# Altium footprint library AMP Footprints.PcbLib: 903 footprints (part 41 of 58)
Each footprint in its own frame and in the unit in brackets; x right, y up, seen from the top. Pads: shape width x height; smd on the part's side, far side on the other; paste and mask are expansions set on the pad; w line width, h text height; cw(c..) or ccw(c..) is an arc to the next point about the centre after c.
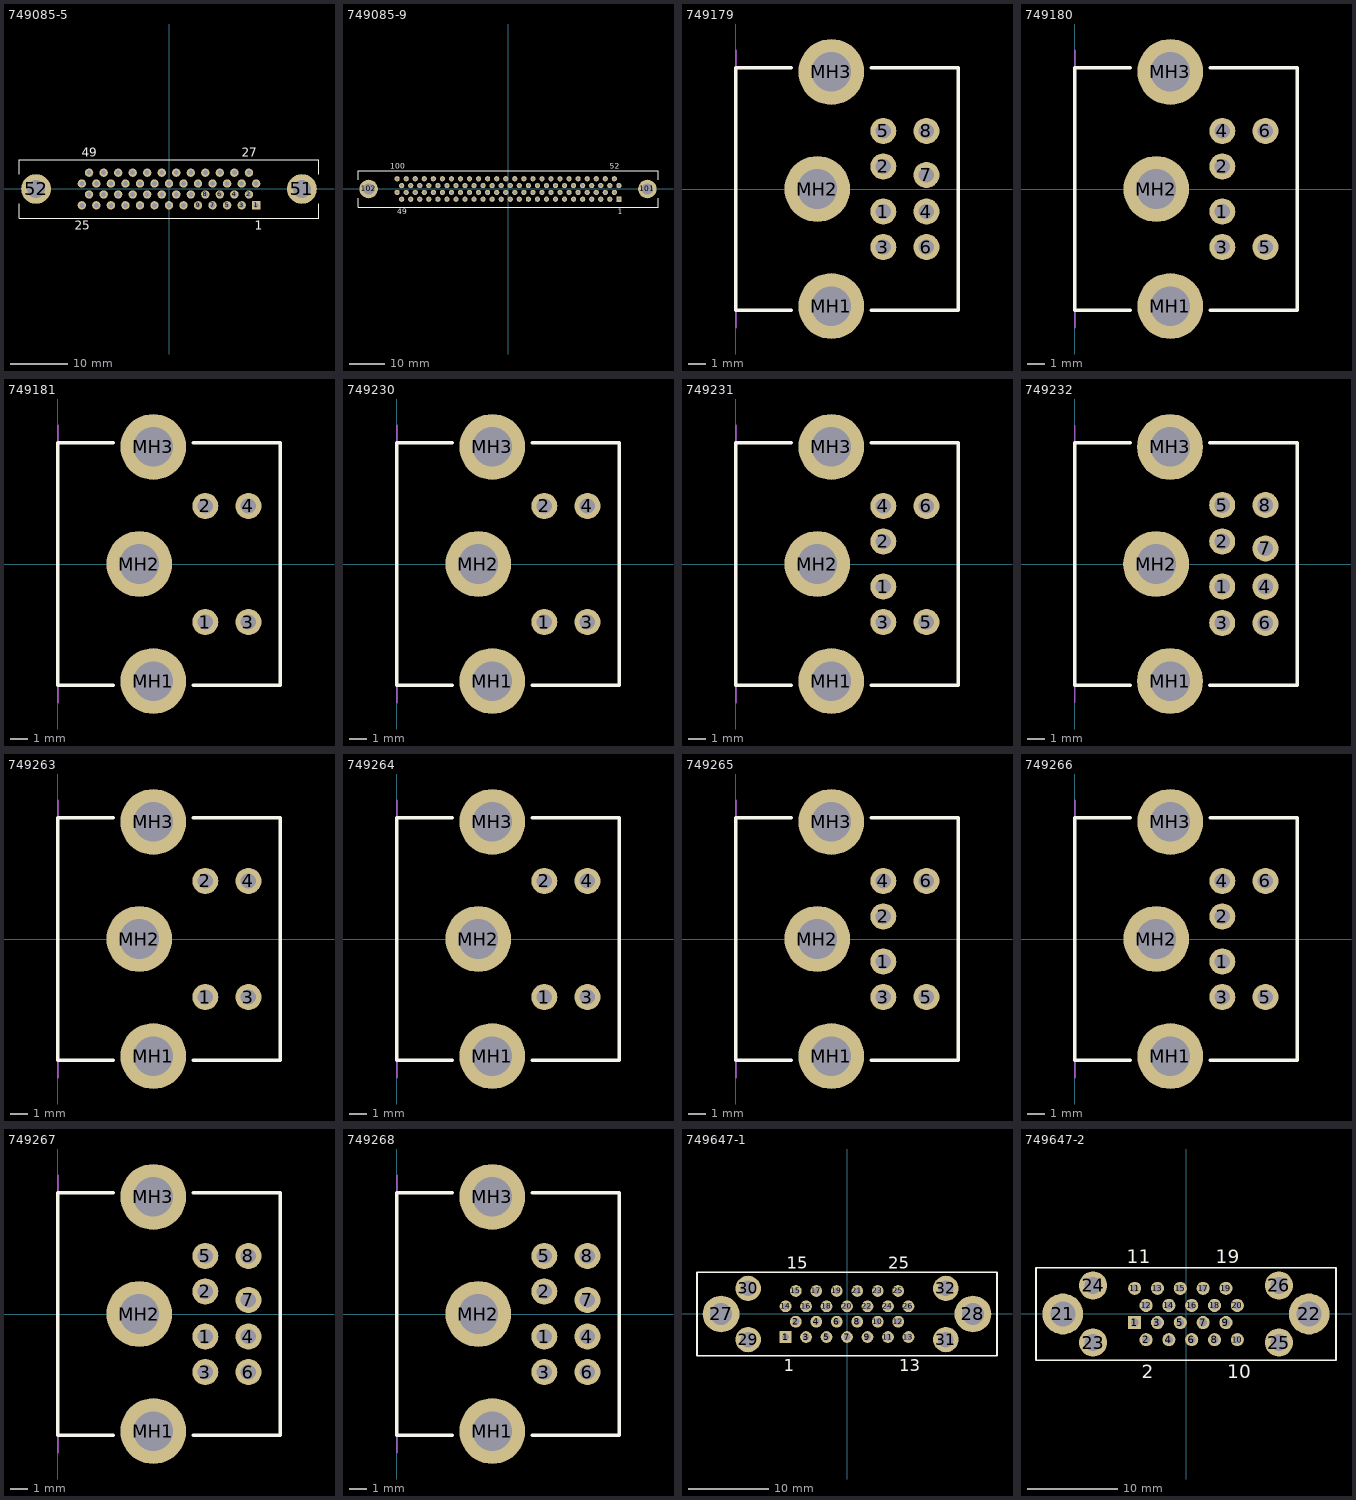
[diagram p40: the footprints below, top view; thin cyan lines are the x and y axes]

## 749085-5 [mm] "Connector; D Subminiature 050 Series; 50 Position; Vertical"
height 9.7
pads (52):
  rect 1.46x1.46 hole 0.86: 1(15.24,-2.857)
  round 1.46 hole 0.86: 2(13.97,-0.953) 3(12.7,-2.857) 4(11.43,-0.953) 5(10.16,-2.857) 6(8.89,-0.953) 7(7.62,-2.857) 8(6.35,-0.953) 9(5.08,-2.857) 10(3.81,-0.953) 11(2.54,-2.857) 12(1.27,-0.953) 13(0,-2.857) 14(-1.27,-0.953) 15(-2.54,-2.857) 16(-3.81,-0.953) 17(-5.08,-2.857) 18(-6.35,-0.953) 19(-7.62,-2.857) 20(-8.89,-0.953) 21(-10.16,-2.857) 22(-11.43,-0.953) 23(-12.7,-2.857) 24(-13.97,-0.953) 25(-15.24,-2.857) 26(15.24,0.953) 27(13.97,2.857) 28(12.7,0.953) 29(11.43,2.857) 30(10.16,0.953) 31(8.89,2.857) 32(7.62,0.953) 33(6.35,2.857) 34(5.08,0.953) 35(3.81,2.857) 36(2.54,0.953) 37(1.27,2.857) 38(0,0.953) 39(-1.27,2.857) 40(-2.54,0.953) 41(-3.81,2.857) 42(-5.08,0.953) 43(-6.35,2.857) 44(-7.62,0.953) 45(-8.89,2.857) 46(-10.16,0.953) 47(-11.43,2.857) 48(-12.7,0.953) 49(-13.97,2.857) 50(-15.24,0.953)
  round 5.2 hole 3.18: 51(23.24,0) 52(-23.24,0)
Top Overlay:
  lines w0.2: -26.225,-2.592 -26.225,-5.155 26.225,-5.155 26.225,-2.592 ; -26.225,2.592 -26.225,5.155 26.225,5.155 26.225,2.592
  text "1" at 14.99,-7.13 h1.5
  text "25" at -16.49,-7.13 h1.5
  text "27" at 12.72,5.63 h1.5
  text "49" at -15.22,5.63 h1.5

## 749085-9 [mm] "Connector; D Subminiature 050 Series; 100 Position; Vertical"
height 9.7
pads (102):
  rect 1.46x1.46 hole 0.86: 1(31.115,-2.857)
  round 1.46 hole 0.86: 2(29.845,-0.953) 3(28.575,-2.857) 4(27.305,-0.953) 5(26.035,-2.857) 6(24.765,-0.953) 7(23.495,-2.857) 8(22.225,-0.953) 9(20.955,-2.857) 10(19.685,-0.953) 11(18.415,-2.857) 12(17.145,-0.953) 13(15.875,-2.857) 14(14.605,-0.953) 15(13.335,-2.857) 16(12.065,-0.953) 17(10.795,-2.857) 18(9.525,-0.953) 19(8.255,-2.857) 20(6.985,-0.953) 21(5.715,-2.857) 22(4.445,-0.953) 23(3.175,-2.857) 24(1.905,-0.953) 25(0.635,-2.857) 26(-0.635,-0.953) 27(-1.905,-2.857) 28(-3.175,-0.953) 29(-4.445,-2.857) 30(-5.715,-0.953) 31(-6.985,-2.857) 32(-8.255,-0.953) 33(-9.525,-2.857) 34(-10.795,-0.953) 35(-12.065,-2.857) 36(-13.335,-0.953) 37(-14.605,-2.857) 38(-15.875,-0.953) 39(-17.145,-2.857) 40(-18.415,-0.953) 41(-19.685,-2.857) 42(-20.955,-0.953) 43(-22.225,-2.857) 44(-23.495,-0.953) 45(-24.765,-2.857) 46(-26.035,-0.953) 47(-27.305,-2.857) 48(-28.575,-0.953) 49(-29.845,-2.857) 50(-31.115,-0.953) 51(31.115,0.953) 52(29.845,2.857) 53(28.575,0.953) 54(27.305,2.857) 55(26.035,0.953) 56(24.765,2.857) 57(23.495,0.953) 58(22.225,2.857) 59(20.955,0.953) 60(19.685,2.857) 61(18.415,0.953) 62(17.145,2.857) 63(15.875,0.953) 64(14.605,2.857) 65(13.335,0.953) 66(12.065,2.857) 67(10.795,0.953) 68(9.525,2.857) 69(8.255,0.953) 70(6.985,2.857) 71(5.715,0.953) 72(4.445,2.857) 73(3.175,0.953) 74(1.905,2.857) 75(0.635,0.953) 76(-0.635,2.857) 77(-1.905,0.953) 78(-3.175,2.857) 79(-4.445,0.953) 80(-5.715,2.857) 81(-6.985,0.953) 82(-8.255,2.857) 83(-9.525,0.953) 84(-10.795,2.857) 85(-12.065,0.953) 86(-13.335,2.857) 87(-14.605,0.953) 88(-15.875,2.857) 89(-17.145,0.953) 90(-18.415,2.857) 91(-19.685,0.953) 92(-20.955,2.857) 93(-22.225,0.953) 94(-23.495,2.857) 95(-24.765,0.953) 96(-26.035,2.857) 97(-27.305,0.953) 98(-28.575,2.857) 99(-29.845,0.953) 100(-31.115,2.857)
  round 5.2 hole 3.18: 101(39.115,0) 102(-39.115,0)
Top Overlay:
  lines w0.2: -42.1,-2.592 -42.1,-5.155 42.1,-5.155 42.1,-2.592 ; -42.1,2.592 -42.1,5.155 42.1,5.155 42.1,2.592
  text "49" at -31.095,-7.13 h1.5
  text "52" at 28.595,5.63 h1.5
  text "1" at 30.865,-7.13 h1.5
  text "100" at -32.99,5.63 h1.5

## 749179 [mm] "Connector; Circular DIN, Thru-Hole; 8 Position; Right Angle; Pitch 2.05/2.6 mm; Body 14 x 12.83 x 13 mm (WxTxH), Shielded, Special PCB Retention"
height 13
pads (11):
  round 1.5 hole 0.89: 1(8.51,-1.3) 2(8.51,1.3) 3(8.51,-3.35) 4(11,-1.3) 5(8.51,3.35) 6(11,-3.35) 7(11,0.81) 8(11,3.35)
  round 3.8 hole 2.29: MH1(5.51,-6.76) MH2(4.7,0) MH3(5.51,6.76)
Top Overlay:
  lines w0.2: 3.2,-7 0,-7 0,7 3.2,7 ; 7.8,-6.99 12.83,-7 12.83,7 7.8,7
Mechanical 1:
  lines w0.1: 0,-8 0,8
  text "PCB Edge" at 0.6,-6.6 h0.25

## 749180 [mm] "Connector; Circular DIN, Thru-Hole; 6 Position; Right Angle; Pitch 2.05/2.6 mm; Body 14 x 12.83 x 13 mm (WxTxH), Shielded, Special PCB Retention"
height 13
pads (9):
  round 1.5 hole 0.89: 1(8.51,-1.3) 2(8.51,1.3) 3(8.51,-3.35) 4(8.51,3.35) 5(11,-3.35) 6(11,3.35)
  round 3.8 hole 2.29: MH1(5.51,-6.76) MH2(4.7,0) MH3(5.51,6.76)
Top Overlay:
  lines w0.2: 3.21,-7 0,-7 0,7 3.21,7 ; 7.81,-7 12.83,-7 12.83,7 7.81,7
Mechanical 1:
  lines w0.1: 0,-8 0,8
  text "PCB Edge" at 0.6,-6.6 h0.25

## 749181 [mm] "Connector; Circular DIN, Thru-Hole; 4 Position; Right Angle; Pitch 2.05/2.6 mm; Body 14 x 12.83 x 13 mm (WxTxH), Shielded, Special PCB Retention"
height 13
pads (7):
  round 1.5 hole 0.89: 1(8.51,-3.35) 2(8.51,3.35) 3(11,-3.35) 4(11,3.35)
  round 3.8 hole 2.29: MH1(5.51,-6.76) MH2(4.7,0) MH3(5.51,6.76)
Top Overlay:
  lines w0.2: 3.21,-7 0,-7 0,7 3.21,7 ; 7.81,-7 12.83,-7 12.83,7 7.81,7
Mechanical 1:
  lines w0.1: 0,-8 0,8
  text "PCB Edge" at 0.6,-6.7 h0.25

## 749230 [mm] "Connector; Circular DIN, Thru-Hole; 4 Position; Right Angle; Pitch 2.05/2.6 mm; Body 14 x 12.83 x 13 mm (WxTxH), Shielded, Special PCB Retention"
height 13
pads (7):
  round 1.5 hole 0.89: 1(8.51,-3.35) 2(8.51,3.35) 3(11,-3.35) 4(11,3.35)
  round 3.8 hole 2.29: MH1(5.51,-6.76) MH2(4.7,0) MH3(5.51,6.76)
Top Overlay:
  lines w0.2: 3.21,-7 0,-7 0,7 3.21,7 ; 7.81,-7 12.83,-7 12.83,7 7.81,7
Mechanical 1:
  lines w0.1: 0,-8 0,8
  text "PCB Edge" at 0.6,-6.7 h0.25

## 749231 [mm] "Connector; Circular DIN, Thru-Hole; 6 Position; Right Angle; Pitch 2.05/2.6 mm; Body 14 x 12.83 x 13 mm (WxTxH), Shielded, Special PCB Retention"
height 13
pads (9):
  round 1.5 hole 0.89: 1(8.51,-1.3) 2(8.51,1.3) 3(8.51,-3.35) 4(8.51,3.35) 5(11,-3.35) 6(11,3.35)
  round 3.8 hole 2.29: MH1(5.51,-6.76) MH2(4.7,0) MH3(5.51,6.76)
Top Overlay:
  lines w0.2: 3.21,-7 0,-7 0,7 3.21,7 ; 7.81,-7 12.83,-7 12.83,7 7.81,7
Mechanical 1:
  lines w0.1: 0,-8 0,8
  text "PCB Edge" at 0.6,-6.6 h0.25

## 749232 [mm] "Connector; Circular DIN, Thru-Hole; 8 Position; Right Angle; Pitch 2.1/2.6 mm; Body 14 x 12.84 x 13 mm (WxTxH), Shielded, Special PCB Retention"
height 13
pads (11):
  round 1.5 hole 0.9: 1(8.51,-1.3) 2(8.51,1.3) 3(8.51,-3.4) 4(11,-1.3) 5(8.51,3.4) 6(11,-3.4) 7(11,0.9) 8(11,3.4)
  round 3.8 hole 2.28: MH1(5.5,-6.75) MH2(4.7,0) MH3(5.5,6.75)
Top Overlay:
  lines w0.2: 3.2,-7 0,-7 0,7 3.2,7 ; 7.8,-6.99 12.84,-7 12.84,7 7.8,7
Mechanical 1:
  lines w0.1: 0,-8 0,8
  text "PCB Edge" at 0.6,-6.6 h0.25

## 749263 [mm] "Connector; Circular DIN, Thru-Hole; 4 Position; Right Angle; Pitch 2.05/2.6 mm; Body 14 x 12.83 x 13 mm (WxTxH), Shielded"
height 13
pads (7):
  round 1.5 hole 0.89: 1(8.51,-3.35) 2(8.51,3.35) 3(11,-3.35) 4(11,3.35)
  round 3.8 hole 2.29: MH1(5.51,-6.76) MH2(4.7,0) MH3(5.51,6.76)
Top Overlay:
  lines w0.2: 3.21,-7 0,-7 0,7 3.21,7 ; 7.81,-7 12.83,-7 12.83,7 7.81,7
Mechanical 1:
  lines w0.1: 0,-8 0,8
  text "PCB Edge" at 0.6,-6.7 h0.25

## 749264 [mm] "Connector; Circular DIN, Thru-Hole; 4 Position; Right Angle; Pitch 2.05/2.6 mm; Body 14 x 12.83 x 13 mm (WxTxH), Shielded"
height 13
pads (7):
  round 1.5 hole 0.89: 1(8.51,-3.35) 2(8.51,3.35) 3(11,-3.35) 4(11,3.35)
  round 3.8 hole 2.29: MH1(5.51,-6.76) MH2(4.7,0) MH3(5.51,6.76)
Top Overlay:
  lines w0.2: 3.21,-7 0,-7 0,7 3.21,7 ; 7.81,-7 12.83,-7 12.83,7 7.81,7
Mechanical 1:
  lines w0.1: 0,-8 0,8
  text "PCB Edge" at 0.6,-6.7 h0.25

## 749265 [mm] "Connector; Circular DIN, Thru-Hole; 6 Position; Right Angle; Pitch 2.05/2.6 mm; Body 14 x 12.83 x 13 mm (WxTxH), Shielded"
height 13
pads (9):
  round 1.5 hole 0.89: 1(8.51,-1.3) 2(8.51,1.3) 3(8.51,-3.35) 4(8.51,3.35) 5(11,-3.35) 6(11,3.35)
  round 3.8 hole 2.29: MH1(5.51,-6.76) MH2(4.7,0) MH3(5.51,6.76)
Top Overlay:
  lines w0.2: 3.21,-7 0,-7 0,7 3.21,7 ; 7.81,-7 12.83,-7 12.83,7 7.81,7
Mechanical 1:
  lines w0.1: 0,-8 0,8
  text "PCB Edge" at 0.6,-6.6 h0.25

## 749266 [mm] "Connector; Circular DIN, Thru-Hole; 6 Position; Right Angle; Pitch 2.05/2.6 mm; Body 14 x 12.83 x 13 mm (WxTxH), Shielded"
height 13
pads (9):
  round 1.5 hole 0.89: 1(8.51,-1.3) 2(8.51,1.3) 3(8.51,-3.35) 4(8.51,3.35) 5(11,-3.35) 6(11,3.35)
  round 3.8 hole 2.29: MH1(5.51,-6.76) MH2(4.7,0) MH3(5.51,6.76)
Top Overlay:
  lines w0.2: 3.21,-7 0,-7 0,7 3.21,7 ; 7.81,-7 12.83,-7 12.83,7 7.81,7
Mechanical 1:
  lines w0.1: 0,-8 0,8
  text "PCB Edge" at 0.6,-6.6 h0.25

## 749267 [mm] "Connector; Circular DIN, Thru-Hole; 8 Position; Right Angle; Pitch 2.05/2.6 mm; Body 14 x 12.83 x 13 mm (WxTxH), Shielded"
height 13
pads (11):
  round 1.5 hole 0.89: 1(8.51,-1.3) 2(8.51,1.3) 3(8.51,-3.35) 4(11,-1.3) 5(8.51,3.35) 6(11,-3.35) 7(11,0.81) 8(11,3.35)
  round 3.8 hole 2.29: MH1(5.51,-6.76) MH2(4.7,0) MH3(5.51,6.76)
Top Overlay:
  lines w0.2: 3.2,-7 0,-7 0,7 3.2,7 ; 7.8,-6.99 12.83,-7 12.83,7 7.8,7
Mechanical 1:
  lines w0.1: 0,-8 0,8
  text "PCB Edge" at 0.6,-6.6 h0.25

## 749268 [mm] "Connector; Circular DIN, Thru-Hole; 8 Position; Right Angle; Pitch 2.05/2.6 mm; Body 14 x 12.83 x 13 mm (WxTxH), Shielded"
height 13
pads (11):
  round 1.5 hole 0.89: 1(8.51,-1.3) 2(8.51,1.3) 3(8.51,-3.35) 4(11,-1.3) 5(8.51,3.35) 6(11,-3.35) 7(11,0.81) 8(11,3.35)
  round 3.8 hole 2.29: MH1(5.51,-6.76) MH2(4.7,0) MH3(5.51,6.76)
Top Overlay:
  lines w0.2: 3.2,-7 0,-7 0,7 3.2,7 ; 7.8,-6.99 12.83,-7 12.83,7 7.8,7
Mechanical 1:
  lines w0.1: 0,-8 0,8
  text "PCB Edge" at 0.6,-6.6 h0.25

## 749647-1 [mm] "Connector; D Subminiature 050 Series; 26 Position; Vertical"
height 9.05
pads (32):
  rect 1.46x1.46 hole 0.86: 1(-7.62,-2.857)
  round 1.46 hole 0.86: 2(-6.35,-0.953) 3(-5.08,-2.857) 4(-3.81,-0.953) 5(-2.54,-2.857) 6(-1.27,-0.953) 7(0,-2.857) 8(1.27,-0.953) 9(2.54,-2.857) 10(3.81,-0.953) 11(5.08,-2.857) 12(6.35,-0.953) 13(7.62,-2.857) 14(-7.62,0.953) 15(-6.35,2.857) 16(-5.08,0.953) 17(-3.81,2.857) 18(-2.54,0.953) 19(-1.27,2.857) 20(0,0.953) 21(1.27,2.857) 22(2.54,0.953) 23(3.81,2.857) 24(5.08,0.953) 25(6.35,2.857) 26(7.62,0.953)
  round 4.55 hole 2.77: 27(-15.62,0) 28(15.62,0)
  round 3.15 hole 1.9: 29(-12.255,-3.175) 30(-12.255,3.175) 31(12.255,-3.175) 32(12.255,3.175)
Top Overlay:
  lines w0.2: -18.605,-5.155 -18.605,5.155 18.605,5.155 18.605,-5.155 -18.605,-5.155
  text "1" at -7.87,-7.13 h1.5
  text "13" at 6.495,-7.13 h1.5
  text "15" at -7.475,5.63 h1.5
  text "25" at 5.1,5.63 h1.5

## 749647-2 [mm] "Connector; D Subminiature 050 Series; 20 Position; Vertical"
height 9.05
pads (26):
  rect 1.46x1.46 hole 0.86: 1(-5.715,-0.953)
  round 1.46 hole 0.86: 2(-4.445,-2.857) 3(-3.175,-0.953) 4(-1.905,-2.857) 5(-0.635,-0.953) 6(0.635,-2.857) 7(1.905,-0.953) 8(3.175,-2.857) 9(4.445,-0.953) 10(5.715,-2.857) 11(-5.715,2.857) 12(-4.445,0.953) 13(-3.175,2.857) 14(-1.905,0.953) 15(-0.635,2.857) 16(0.635,0.953) 17(1.905,2.857) 18(3.175,0.953) 19(4.445,2.857) 20(5.715,0.953)
  round 4.55 hole 2.77: 21(-13.715,0) 22(13.715,0)
  round 3.15 hole 1.9: 23(-10.35,-3.175) 24(-10.35,3.175) 25(10.35,-3.175) 26(10.35,3.175)
Top Overlay:
  lines w0.2: -16.7,-5.155 -16.7,5.155 16.7,5.155 16.7,-5.155 -16.7,-5.155
  text "2" at -4.945,-7.13 h1.5
  text "10" at 4.59,-7.13 h1.5
  text "11" at -6.59,5.63 h1.5
  text "19" at 3.32,5.63 h1.5